# Altium schematic symbol library resistor-0603.SchLib: 1 symbol
Pins are listed as number, name and electrical type; pins without a type are passive.

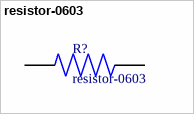
[diagram p0: symbol resistor-0603]

## resistor-0603
designator R?
Resistor 0603 (1608 Metric) Moisture Resistant Thick Film
footprint resistor-0603 (Resistor 0603 (1608 Metric) Moisture Resistant Thick Film)
pins: 1, 2